# Altium footprint library xPcbLib.PcbLib: 14 footprints
Each footprint in its own frame and in the unit in brackets; x right, y up, seen from the top. Pads: shape width x height; smd on the part's side, far side on the other; paste and mask are expansions set on the pad; w line width, h text height; cw(c..) or ccw(c..) is an arc to the next point about the centre after c.
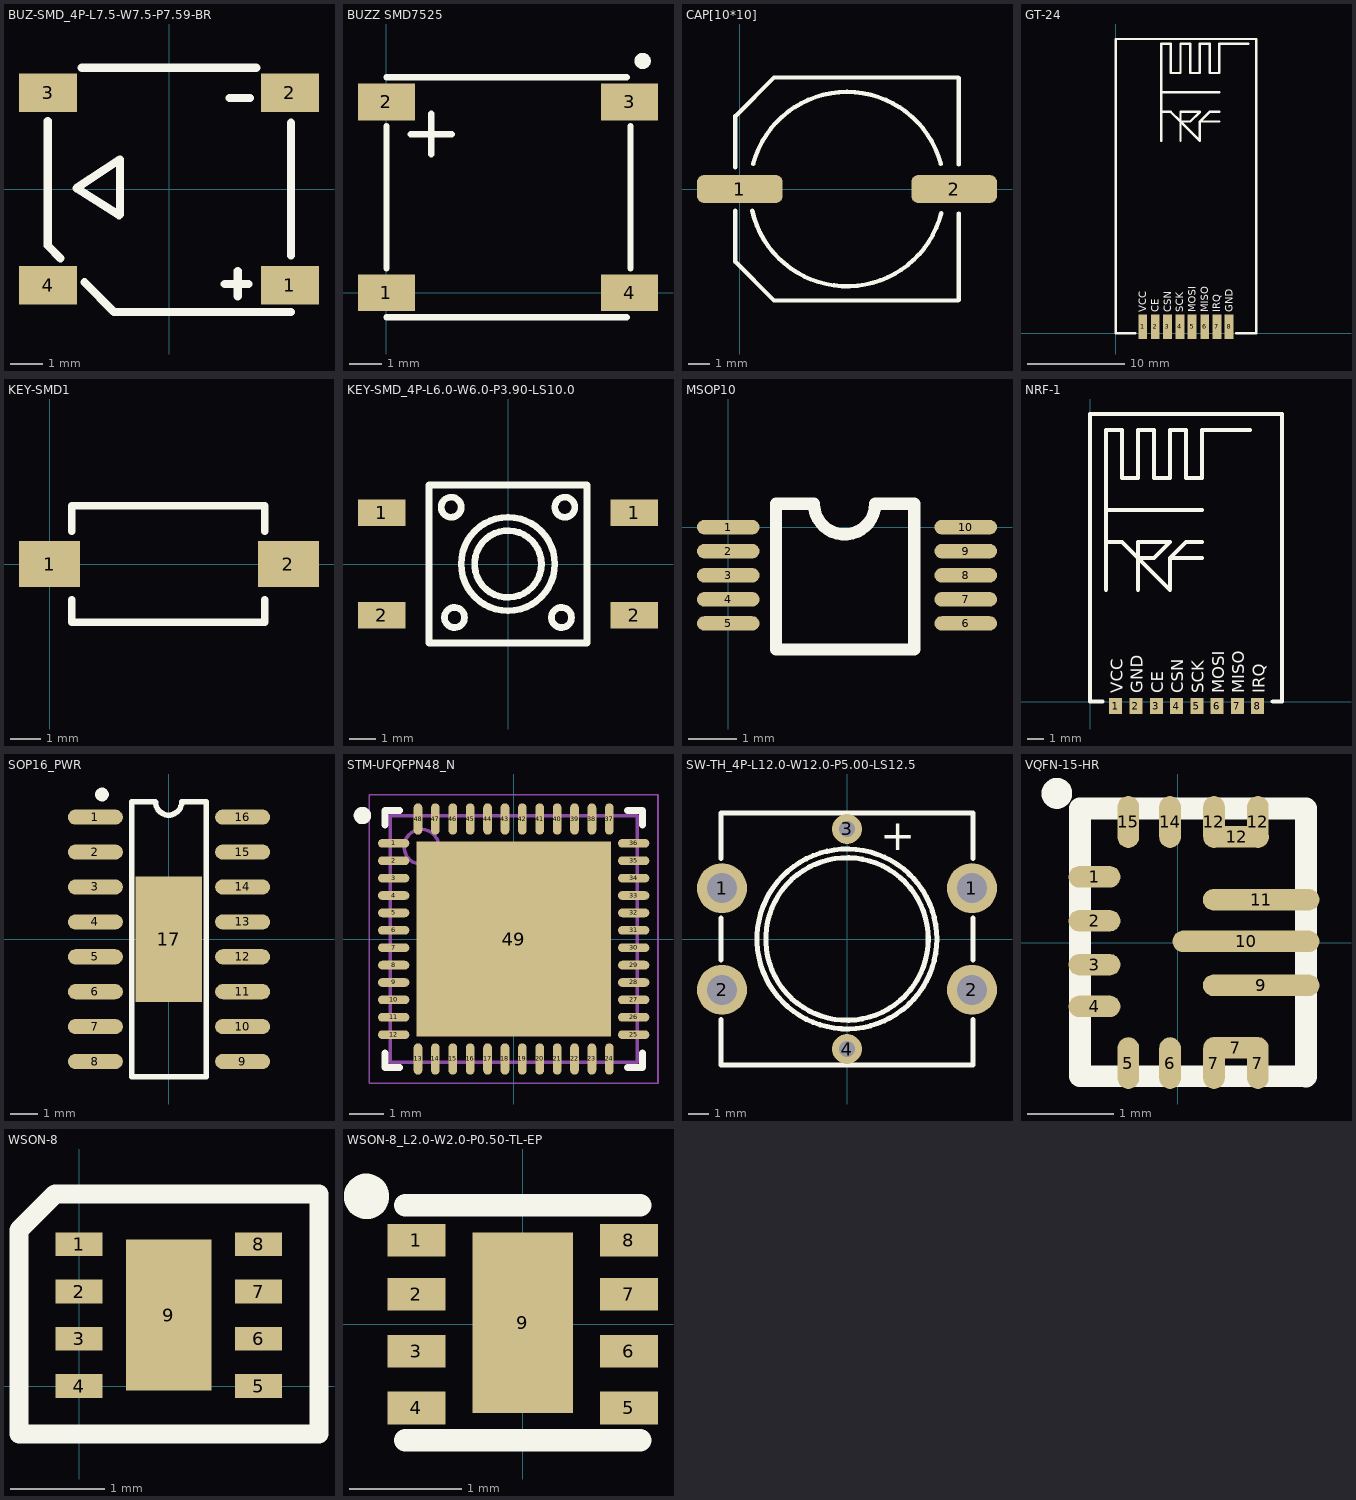
[diagram p0: the footprints below, top view; thin cyan lines are the x and y axes]

## BUZ-SMD_4P-L7.5-W7.5-P7.59-BR [mm]
pads (4):
  rect 1.801x1.199 smd: 1(3.75,-2.979) 2(3.75,2.98) 3(-3.75,2.98)
  rect 1.8x1.2 smd: 4(-3.75,-2.98)
Top Overlay:
  lines w0.254: -3.759,2.108 -3.759,-1.752 -3.362,-2.149 ; -2.707,3.759 2.707,3.759 ; -2.62,-2.892 -1.702,-3.81 3.785,-3.81 ; -1.549,-0.813 -2.87,0.026 -1.524,0.915 -1.524,-0.787 ; 1.727,-2.946 2.464,-2.946 ; 1.88,2.82 2.515,2.82 ; 2.134,-3.327 2.134,-2.54 ; 3.785,-2.065 3.785,2.054

## BUZZ SMD7525 [mm]
pads (4):
  rect 1.78x1.15 smd mask+0.102: 1(0,0) 2(0,5.96) 3(7.59,5.96) 4(7.59,0)
Top Overlay:
  circle w0.254: c8.001,7.239 r0.127
  lines w0.2: 0,-0.762 7.5,-0.762 ; 0,0.762 0,5.207 ; 0,6.731 7.5,6.731 ; 0.762,4.953 2.032,4.953 ; 1.397,4.318 1.397,5.588 ; 7.62,0.762 7.62,5.207

## CAP[10*10] [mm]
pads (2):
  rrect50% 4x1.3 smd: 1(0,0) 2(10,0)
Top Overlay:
  lines w0.203: -0.207,-1.016 -0.207,-3.397 1.596,-5.2 10.189,-5.2 10.207,-5.182 10.207,-1.143 ; -0.207,1.016 -0.207,3.404 ; -0.191,3.413 1.596,5.2 10.189,5.2 10.207,5.182 10.207,1.143 ; 0.574,-1.012 ccw(c5,0) 9.397,-1.131 ; 0.619,1.165 cw(c5,0) 9.381,1.165
3D body "SW3dPS-capacitor size G.STEP": height 10.21, standoff -0.01, extent -0.775,-5.118 10.825,5.182

## GT-24 [mm]
pads (8):
  rect 0.9x2.5 smd: 1(2.79,0.635) 2(4.09,0.635) 3(5.343,0.635) 4(6.63,0.635) 5(7.875,0.635) 6(9.176,0.635) 7(10.435,0.635) 8(11.688,0.635)
Top Overlay:
  lines w0.254: 2.032,0 0,0 0,30.3 14.5,30.3 14.5,0 12.446,0 ; 4.683,19.797 4.683,23.797 ; 4.683,21.797 4.683,23.797 ; 4.683,22.797 5.683,22.797 6.683,21.797 ; 10.683,21.797 8.683,21.797 ; 10.683,22.797 9.683,22.797 8.683,21.797 ; 10.683,24.797 4.683,24.797 ; 13.683,29.797 11.683,29.797 10.683,29.797 10.683,26.797 9.683,26.797 9.683,29.797 8.683,29.797 8.683,26.797 7.683,26.797 7.683,29.797 6.683,29.797 6.683,26.797 5.683,26.797 5.683,29.797 4.683,29.797 4.683,24.797 ; 4.683,23.797 4.683,24.797 ; 6.683,21.797 8.683,19.797 8.683,21.797 ; 6.683,21.797 7.683,21.797 8.683,22.797 6.683,22.797 6.683,21.797 ; 6.683,21.797 6.683,19.797 6.683,21.797
  text "VCC" at 3.175,2.159 h0.76
  text "GND" at 12.065,2.159 h0.76
  text "CE" at 4.445,2.159 h0.76
  text "CSN" at 5.715,2.159 h0.76
  text "SCK" at 6.985,2.159 h0.76
  text "MOSI" at 8.255,2.159 h0.76
  text "MISO" at 9.525,2.159 h0.76
  text "IRQ" at 10.795,2.159 h0.76

## KEY-SMD1 [mm]
pads (2):
  rect 2x1.5 smd: 1(0,0) 2(7.8,0)
Top Overlay:
  lines w0.254: 0.725,-1.168 0.725,-1.9 7.025,-1.9 7.025,-1.168 ; 0.725,1.067 0.725,1.9 7.025,1.9 7.025,1.067
3D body "SMD按键": height 2.5, standoff 0, extent -0.059,-1.945 7.831,1.905

## KEY-SMD_4P-L6.0-W6.0-P3.90-LS10.0 [mm]
pads (4):
  rect 1.8x1 smd: 1(-4.8,1.95) 1(4.8,1.95) 2(-4.8,-1.95) 2(4.8,-1.95)
Top Overlay:
  circle w0.254: c-2.159,2.159 r0.381
  circle w0.254: c2.159,2.159 r0.381
  circle w0.254: c-2.032,-2.032 r0.381
  circle w0.254: c2.032,-2.032 r0.381
  circle w0.254: c0,0 r1.778
  circle w0.254: c0,0 r1.27
  lines w0.254: -3,-3 -3,3 3,3 3,-3 -3,-3

## MSOP10 [mm] "VSOP8"
height 5
pads (10):
  oval 1.3x0.3 smd: 1(0,0) 2(0,-0.5) 3(0,-1) 4(0,-1.5) 5(0,-2) 6(4.928,-2) 7(4.928,-1.5) 8(4.928,-1) 9(4.928,-0.5) 10(4.928,0)
Top Overlay:
  lines w0.254: 0.991,-2.54 0.991,0.483 1.778,0.483 ccw(c2.413,0.483) 3.048,0.483 3.861,0.483 3.861,-2.54 0.991,-2.54
3D body "MSOP10-1.step": height 1.09, standoff 0, extent -0.111,-2.616 5.039,0.584

## NRF-1 [mm]
pads (8):
  rect 0.813x1 smd: 1(1.6,-0.275) 2(2.87,-0.275) 3(4.14,-0.275) 4(5.41,-0.275) 5(6.68,-0.275) 6(7.95,-0.275) 7(9.22,-0.275) 8(10.49,-0.275)
Top Overlay:
  lines w0.254: 0.762,0 0,0 0,18 12,18 12,0 11.43,0 ; 1,7 1,11 ; 1,9 1,11 ; 1,10 2,10 3,9 ; 7,9 5,9 ; 7,10 6,10 5,9 ; 7,12 1,12 ; 10,17 8,17 7,17 7,14 6,14 6,17 5,17 5,14 4,14 4,17 3,17 3,14 2,14 2,17 1,17 1,12 ; 1,11 1,12 ; 3,9 3,7 3,9 ; 3,9 3,10 5,10 4,9 3,9 ; 3,9 5,7 5,9
  text "IRQ" at 10.922,0.508 h0.76
  text "MISO" at 9.652,0.508 h0.76
  text "MOSI" at 8.382,0.508 h0.76
  text "SCK" at 7.112,0.508 h0.76
  text "CSN" at 5.842,0.508 h0.76
  text "CE" at 4.572,0.508 h0.76
  text "GND" at 3.302,0.508 h0.76
  text "VCC" at 2.032,0.508 h0.76

## SOP16_PWR [mm] "SOP, 16-Leads, Body 9.90x3.90mm, Pitch 1.27mm, IPC Medium Density"
height 1.75
pads (17):
  oval 2x0.55 smd: 1(-2.667,4.445) 2(-2.667,3.175) 3(-2.667,1.905) 4(-2.667,0.635) 5(-2.667,-0.635) 6(-2.667,-1.905) 7(-2.667,-3.175) 8(-2.667,-4.445) 9(2.692,-4.445) 10(2.692,-3.175) 11(2.692,-1.905) 12(2.692,-0.635) 13(2.692,0.635) 14(2.692,1.905) 15(2.692,3.175) 16(2.692,4.445)
  rect 2.41x4.57 smd: 17(0,0)
Top Overlay:
  circle w0.25: c-2.425,5.27 r0.125
  lines w0.2: -0.483,5 -1.346,5 -1.346,-5 1.372,-5 1.372,5 0.475,5 ; -0.475,4.997 ccw(c0,4.996) 0.475,4.997
3D body "SO-16.step": height 1.45, standoff 0, extent -2.927,-4.978 2.978,5.004

## STM-UFQFPN48_N [mm] "QFN, 48-Leads, Body 7.1x7.1mm, Pitch 0.5mm, Thermal Pad 5.6x5.6mm, IPC Medium Density"
height 0.6
pads (49):
  oval 0.9x0.25 smd: 1(-3.45,2.75) 2(-3.45,2.25) 3(-3.45,1.75) 4(-3.45,1.25) 5(-3.45,0.75) 6(-3.45,0.25) 7(-3.45,-0.25) 8(-3.45,-0.75) 9(-3.45,-1.25) 10(-3.45,-1.75) 11(-3.45,-2.25) 12(-3.45,-2.75) 25(3.45,-2.75) 26(3.45,-2.25) 27(3.45,-1.75) 28(3.45,-1.25) 29(3.45,-0.75) 30(3.45,-0.25) 31(3.45,0.25) 32(3.45,0.75) 33(3.45,1.25) 34(3.45,1.75) 35(3.45,2.25) 36(3.45,2.75)
  oval 0.25x0.9 smd: 13(-2.75,-3.45) 14(-2.25,-3.45) 15(-1.75,-3.45) 16(-1.25,-3.45) 17(-0.75,-3.45) 18(-0.25,-3.45) 19(0.25,-3.45) 20(0.75,-3.45) 21(1.25,-3.45) 22(1.75,-3.45) 23(2.25,-3.45) 24(2.75,-3.45) 37(2.75,3.45) 38(2.25,3.45) 39(1.75,3.45) 40(1.25,3.45) 41(0.75,3.45) 42(0.25,3.45) 43(-0.25,3.45) 44(-0.75,3.45) 45(-1.25,3.45) 46(-1.75,3.45) 47(-2.25,3.45) 48(-2.75,3.45)
  rect 5.6x5.6 smd: 49(0,0)
Top Overlay:
  circle w0.25: c-4.35,3.55 r0.125
  lines w0.2: -3.7,-3.275 -3.7,-3.7 -3.275,-3.7 ; -3.7,3.275 -3.7,3.7 -3.275,3.7 ; 3.275,-3.7 3.7,-3.7 3.7,-3.275 ; 3.275,3.7 3.7,3.7 3.7,3.275
Mechanical 13:
  circle w0.1: c-2.65,2.65 r0.5
  lines w0.1: -3.55,-3.55 3.55,-3.55 3.55,3.55 -3.55,3.55 -3.55,-3.55
Mechanical 15:
  lines w0.05: -4.15,-4.15 4.15,-4.15 4.15,4.15 -4.15,4.15 -4.15,-4.15
3D body: height 0.6, standoff 0, extent -3.55,-3.55 3.55,3.55

## SW-TH_4P-L12.0-W12.0-P5.00-LS12.5 [mm]
pads (6):
  round 2.5 hole 1.5: 1(-6.25,2.54) 1(6.25,2.54) 2(-6.25,-2.54) 2(6.25,-2.54)
  round 1.5 hole 0.8: 3(0,5.5) 4(0,-5.5)
Top Overlay:
  circle w0.254: c-0.002,0.002 r4.498
  circle w0.254: c0,0 r4.064
  lines w0.254: -6.3,-4.02 -6.3,-6.3 6.3,-6.3 6.3,-4.02 ; -6.3,-1.06 -6.3,1.06 ; -6.3,4.02 -6.3,6.3 6.3,6.3 6.3,4.02 ; 6.3,-1.06 6.3,1.06
  text "+" at 1.651,4.445 h1.52

## VQFN-15-HR [mm] "VQFN"
pads (17):
  oval 0.599x0.25 smd: 1(-0.964,0.759) 2(-0.964,0.251) 3(-0.964,-0.257) 4(-0.964,-0.739)
  oval 0.25x0.599 smd: 5(-0.573,-1.394) 6(-0.09,-1.394) 7(0.418,-1.394) 7(0.926,-1.394) 12(0.418,1.394) 12(0.926,1.394) 14(-0.09,1.394) 15(-0.573,1.394)
  oval 0.75x0.25 smd: 7(0.672,-1.217) 12(0.679,1.222)
  oval 1.349x0.25 smd: 9(0.964,-0.495) 11(0.964,0.495)
  oval 1.7x0.25 smd: 10(0.789,0.013)
Top Overlay:
  circle w0.254: c-1.399,1.725 r0.051
  lines w0.254: -1.132,1.553 -1.132,-1.547 1.468,-1.547 ; -1.115,1.552 1.485,1.552 1.485,-1.548

## WSON-8 [mm]
pads (9):
  rect 0.5x0.25 smd: 1(0,1.5) 2(0,1) 3(0,0.5) 4(0,0) 5(1.9,0) 6(1.9,0.5) 7(1.9,1) 8(1.9,1.5)
  rect 0.9x1.6 smd mask+0.102: 9(0.95,0.75)
Top Overlay:
  lines w0.2: -0.635,-0.508 2.54,-0.508 2.54,2.032 -0.254,2.032 -0.635,1.651 -0.635,-0.508

## WSON-8_L2.0-W2.0-P0.50-TL-EP [mil]
pads (9):
  rect 20.5x11.5 smd: 1(-37.4,29.5) 2(-37.4,10.5) 3(-37.4,-9.5) 4(-37.4,-29.5) 5(37.4,-29.5) 6(37.4,-9.5) 7(37.4,10.5) 8(37.4,29.5)
  rect 35.5x63.5 smd: 9(0,0.5)
Top Overlay:
  circle w10: c-55,45 r3
  lines w7.9: -41.34,41.84 41.34,41.84 ; -41.3,-40.84 41.34,-40.84